# EAGLE library part AL5802 (library greg-IC)
AL5082 - Adjustable Current Sink LED Driver The AL5802 combines a high gain NPN transistor with a pre-biased NPN transistor to make a simple small footprint LED driver. The LED current is set by an external resistor connected from REXT pin (6) to GND pin (4), the internal high gain transistor develops approximately 0.6V across the external resistor. The AL5802 open-collector output can operate from 0.8V to 30V enabling it to operate from 5V to 24V power supplies without additional components. PWM dimming of the LED current can be achieved by either driving the BIAS pin (2) with a low impedance voltage source, or driving the EN pin (3) with an external open-collector NPN transistor or opendrain N-channel MOSFET. The AL5802 is available in a SOT26 package and is ideal for driving 20mA to 120mA LED currents. Datasheet: https://www.diodes.com/assets/Datasheets/AL5802.pdf
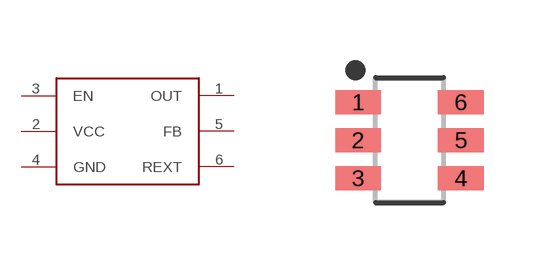
[diagram p18: symbol with the pads of SOT95P285X140-6N; footprint SOT95P285X140-6N]

Designator prefix -

## AL5802  [SOT95P285X140-6N]
1  OUT
2  VCC
3  EN
4  GND
5  FB
6  REXT

## Footprint SOT95P285X140-6N (pad centres in mm)
6-SOT23, 0.95 mm pitch, 2.85 mm span, 3.00 X 1.60 X 1.40 mm body 6-pin SOT23 package with 0.95 mm pitch, 2.85 mm span with body size 3.00 X 1.60 X 1.40 mm
smd 1.146 x 0.597: 1 -1.287,0.95; 2 -1.287,0; 3 -1.287,-0.95; 4 1.287,-0.95; 5 1.287,0; 6 1.287,0.95